# Altium schematic symbol library MICROREADER.SchLib: 3 symbols
Pins are listed as number, name and electrical type; pins without a type are passive.

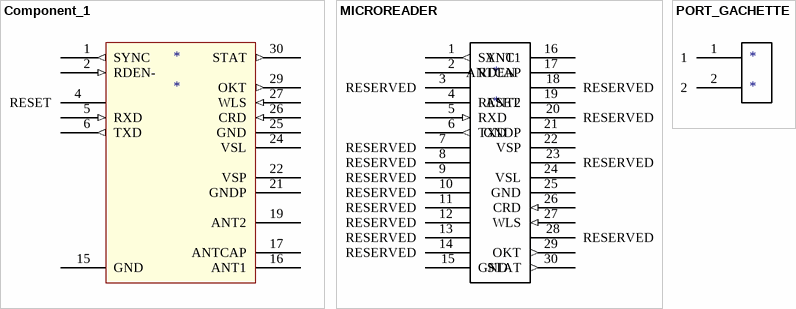
[diagram p0: symbols Component_1 to PORT_GACHETTE]

## Component_1
designator *
footprint DIP30
pins: 1 SYNC (out), 2 RDEN- (in), 4 RESET, 5 RXD (in), 6 TXD (out), 15 GND, 16 ANT1, 17 ANTCAP, 19 ANT2, 21 GNDP, 22 VSP, 24 VSL, 25 GND, 26 CRD (in), 27 WLS (in), 29 OKT (out), 30 STAT (out)

## MICROREADER
designator *
footprint DIP30
pins: 1 SYNC (out), 2 RDEN, 3 RESERVED, 4 RESET, 5 RXD (in), 6 TXD (out), 7 RESERVED, 8 RESERVED, 9 RESERVED, 10 RESERVED, 11 RESERVED, 12 RESERVED, 13 RESERVED, 14 RESERVED, 15 GND, 16 ANT1, 17 ANTCAP, 18 RESERVED, 19 ANT2, 20 RESERVED, 21 GNDP, 22 VSP, 23 RESERVED, 24 VSL, 25 GND, 26 CRD (in), 27 WLS (in), 28 RESERVED, 29 OKT (out), 30 STAT (out)

## PORT_GACHETTE
designator *
pins: 1, 2